# EAGLE library part TI_LAUNCHPAD_SHORT (library jesse)
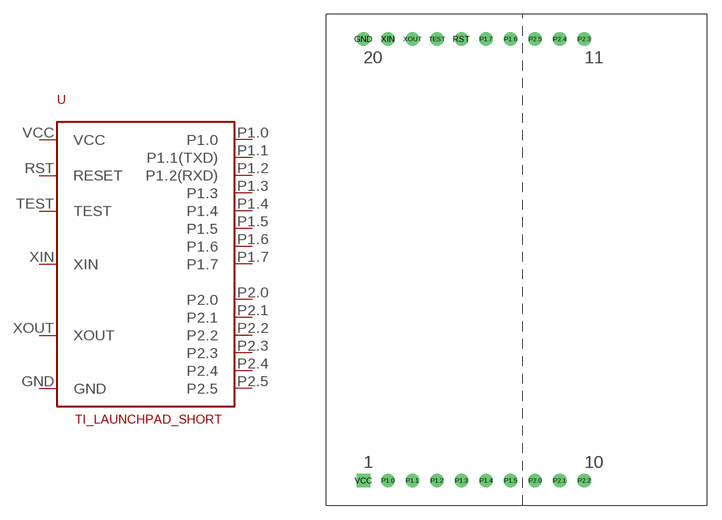
[diagram p8: symbol with the pads of LAUNCHPAD_SHORT; footprint LAUNCHPAD_SHORT]

Designator prefix U

## TI_LAUNCHPAD_SHORT  [LAUNCHPAD_SHORT]
GND  GND  pwr
P1.0  P1.0
P1.1  P1.1(TXD)
P1.2  P1.2(RXD)
P1.3  P1.3
P1.4  P1.4
P1.5  P1.5
P1.6  P1.6
P1.7  P1.7
P2.0  P2.0
P2.1  P2.1
P2.2  P2.2
P2.3  P2.3
P2.4  P2.4
P2.5  P2.5
RST  RESET
TEST  TEST
VCC  VCC  pwr
XIN  XIN
XOUT  XOUT

## Footprint LAUNCHPAD_SHORT (pad centres in mm)
drill 0.9: GND 0,45.72; P1.0 2.54,0; P1.1 5.08,0; P1.2 7.62,0; P1.3 10.16,0; P1.4 12.7,0; P1.5 15.24,0; P1.6 15.24,45.72; P1.7 12.7,45.72; P2.0 17.78,0; P2.1 20.32,0; P2.2 22.86,0; P2.3 22.86,45.72; P2.4 20.32,45.72; P2.5 17.78,45.72; RST 10.16,45.72; TEST 7.62,45.72; XIN 2.54,45.72; XOUT 5.08,45.72
drill 0.9 square: VCC 0,0